# Altium footprint library Switches.PcbLib: 1 footprints
Each footprint in its own frame and in the unit in brackets; x right, y up, seen from the top. Pads: shape width x height; smd on the part's side, far side on the other; paste and mask are expansions set on the pad; w line width, h text height; cw(c..) or ccw(c..) is an arc to the next point about the centre after c.
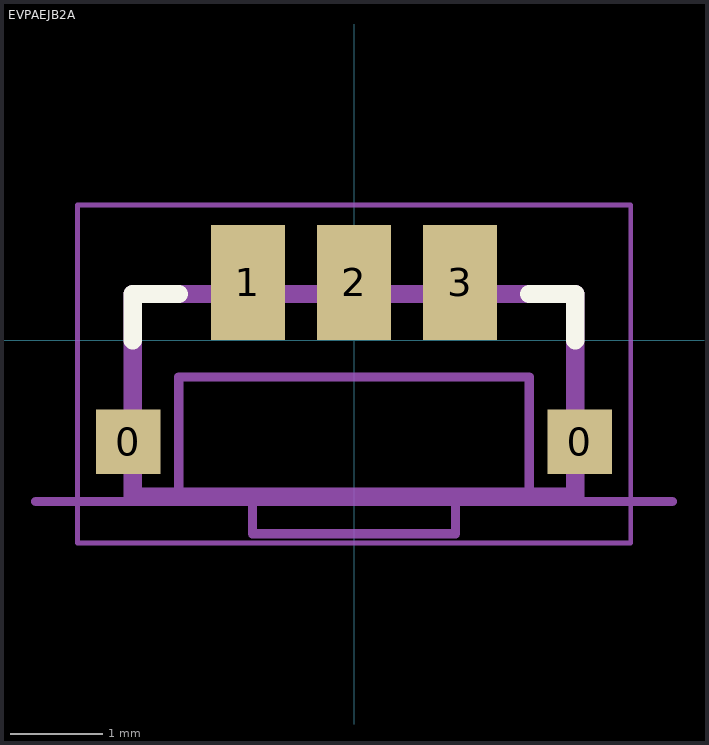
[diagram p0: the footprint, top view; thin cyan lines are the x and y axes]

## EVPAEJB2A [mm]
pads (5):
  rect 0.7x0.7 smd: 0(-2.45,-1.1) 0(2.45,-1.1)
  rect 0.8x1.25 smd: 1(-1.15,0.625) 2(0,0.625) 3(1.15,0.625)
Top Overlay:
  lines w0.2: -2.4,0 -2.4,0.5 -1.9,0.5 ; 1.9,0.5 2.4,0.5 2.4,0
Mechanical 1:
  lines w0.1: -3.45,-1.75 -1.9,-1.75 -1.9,-0.4 1.9,-0.4 1.9,-1.75 3.45,-1.75
Mechanical 13:
  lines w0.1: -1.1,-1.7 -1.1,-2.1 1.1,-2.1 1.1,-1.7
  lines w0.2: -2.4,0.5 -2.4,0.5 ; -2.4,0.5 -2.4,-1.7 1.1,-1.7 2.4,-1.7 2.4,-1.6 2.4,0.5 -2.4,0.5
Mechanical 15:
  lines w0.05: -2.998,-2.2 -2.998,1.465 3,1.465 3,-2.2 -2.998,-2.2
  text ".Designator" at -1,-0.2 h0.5
3D body "EVPAEBB2A.STEP": height 0.95, standoff -2.01, extent -2.4,-2.1 2.4,0.5